# EAGLE library part BUTTON (library growbot)
кнопка на 12 или на 6 мм
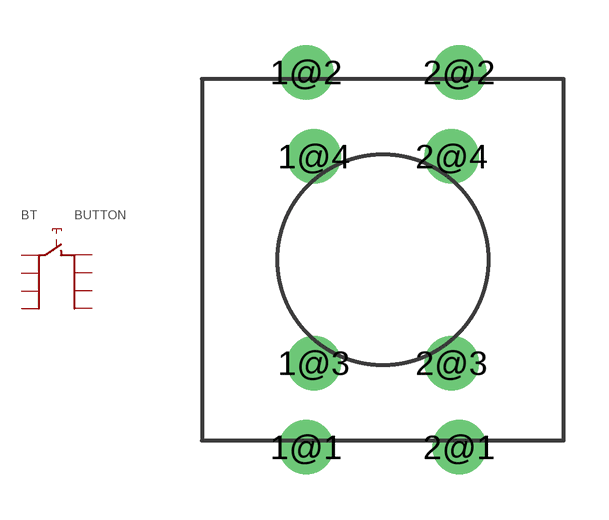
[diagram p13: symbol with the pads of BUTTON; footprint BUTTON]

Designator prefix BT

## BUTTON  [BUTTON]
1@1  1  pas
1@2  1  pas
1@3  1  pas
1@4  1  pas
2@1  2  pas
2@2  2  pas
2@3  2  pas
2@4  2  pas

## Footprint BUTTON (pad centres in mm)
drill 1.2: 1@1 -2.54,-6.223; 1@2 -2.54,6.223; 1@3 -2.286,-3.429; 1@4 -2.286,3.429; 2@1 2.54,-6.223; 2@2 2.54,6.223; 2@3 2.286,-3.429; 2@4 2.286,3.429